# Altium footprint library Footprints.PcbLib: 96 footprints (part 1 of 6)
Each footprint in its own frame and in the unit in brackets; x right, y up, seen from the top. Pads: shape width x height; smd on the part's side, far side on the other; paste and mask are expansions set on the pad; w line width, h text height; cw(c..) or ccw(c..) is an arc to the next point about the centre after c.
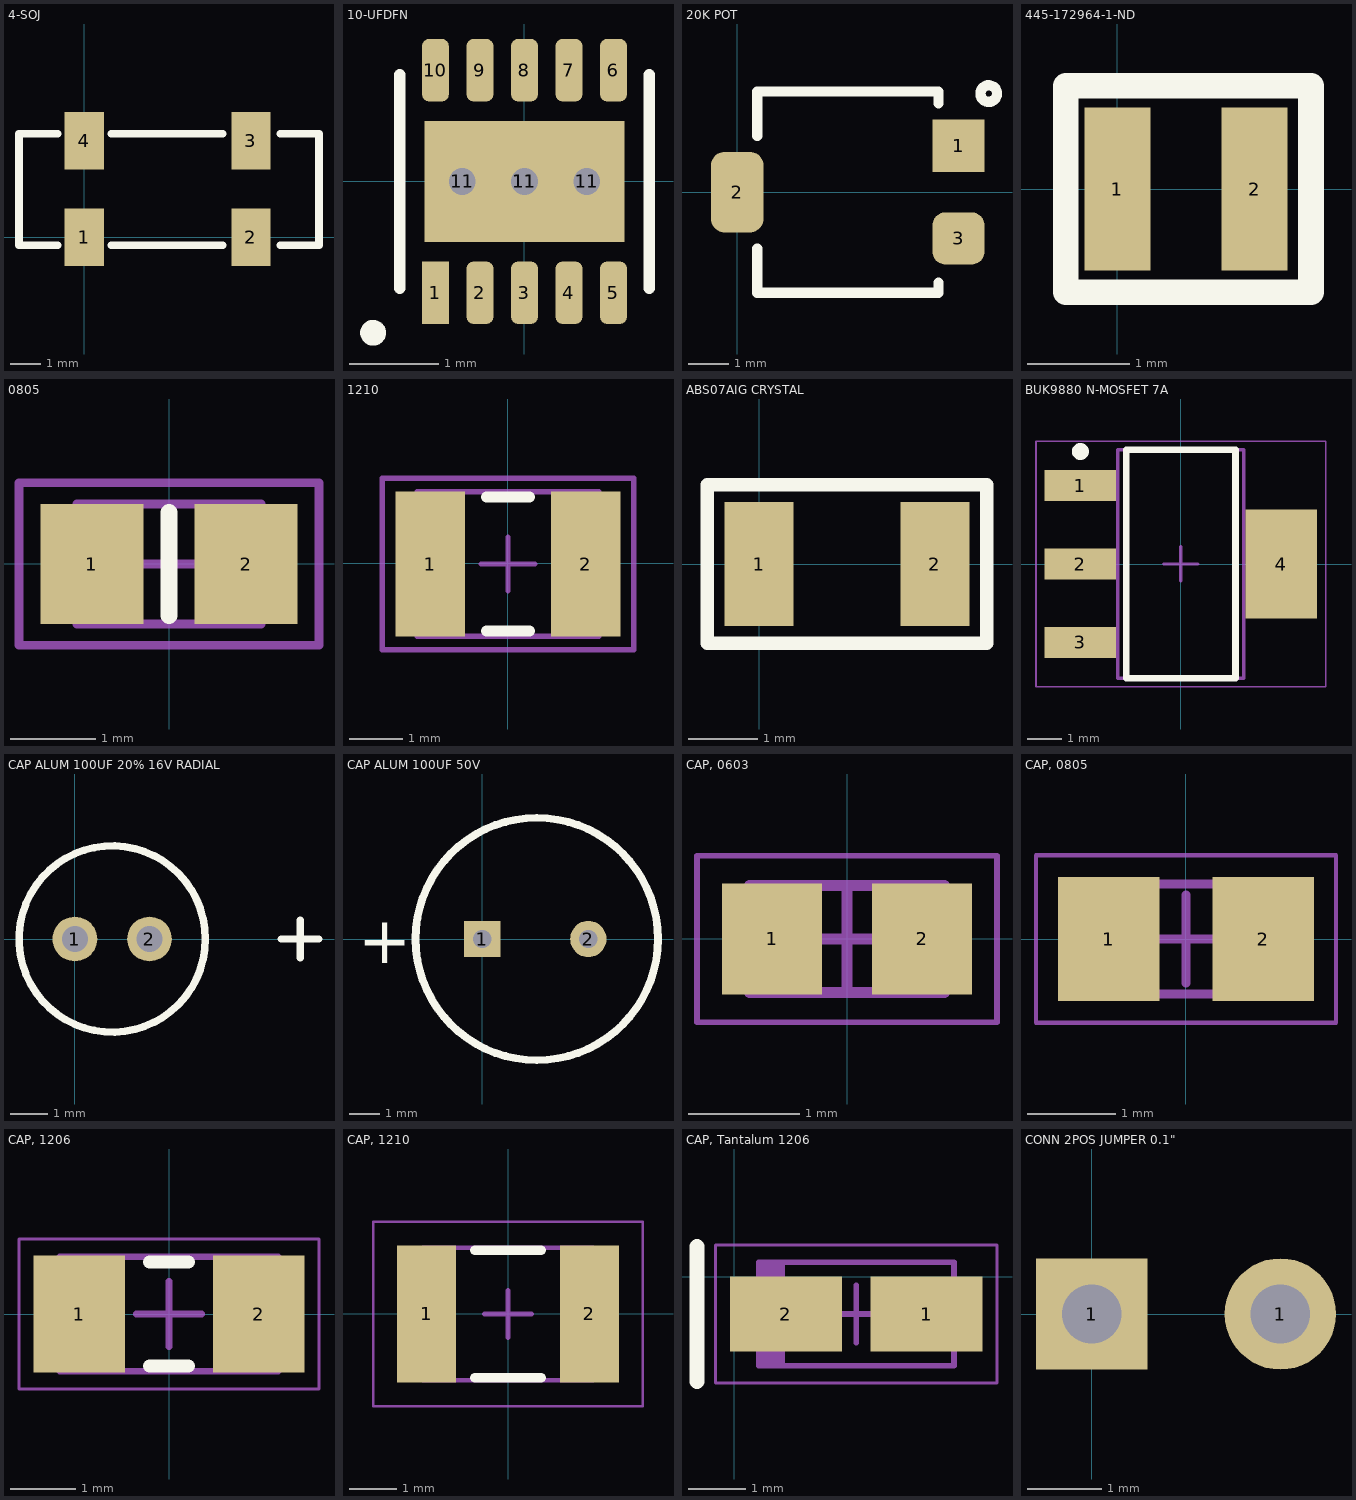
[diagram p0: the footprints below, top view; thin cyan lines are the x and y axes]

## 4-SOJ [mm]
pads (4):
  rect 1.3x1.9 smd: 1(0,0) 2(5.5,0) 3(5.5,3.2) 4(0,3.2)
Top Overlay:
  lines w0.254: -0.889,-0.254 -2.159,-0.254 -2.159,3.429 -0.889,3.429 ; 0.889,-0.254 4.572,-0.254 ; 0.889,3.429 4.572,3.429 ; 6.477,-0.254 7.747,-0.254 7.747,3.429 6.477,3.429

## 10-UFDFN [mm]
pads (14):
  rect 0.3x0.7 smd: 1(-1,-1.25)
  rrect50% 0.3x0.7 smd: 2(-0.5,-1.25) 3(0,-1.25) 4(0.5,-1.25) 5(1,-1.25) 6(1,1.25) 7(0.5,1.25) 8(0,1.25) 9(-0.5,1.25) 10(-1,1.25)
  round 0.6 hole 0.3: 11(-0.7,0) 11(0,0) 11(0.7,0)
  rect 2.25x1.36 smd paste-0.2: 11(0,0)
Top Overlay:
  circle w0.15: c-1.7,-1.7 r0.07
  lines w0.127: -1.4,-1.2 -1.4,1.2 ; 1.4,-1.2 1.4,1.2
3D body: height 0.6, standoff 0, extent -1.275,-1.275 1.275,1.275

## 20K POT [mm]
height 2.7
pads (3):
  rect 1.3x1.3 smd: 1(5.5,1.15)
  rrect50% 1.3x2 smd: 2(0,0)
  rrect50% 1.3x1.3 smd: 3(5.5,-1.15)
Top Overlay:
  circle w0.254: c6.25,2.45 r0.206
  lines w0.254: 0.5,-1.4 0.5,-2.5 5,-2.5 5,-2.25 ; 0.5,1.4 0.5,2.5 5,2.5 5,2.2

## 445-172964-1-ND [mm]
pads (2):
  rect 0.65x1.6 smd: 1(0,0) 2(1.35,0)
Top Overlay:
  lines w0.254: -0.508,-1.016 -0.508,1.016 1.905,1.016 1.905,-1.016 -0.508,-1.016

## 0805 [mm]
pads (2):
  rect 1.2x1.4 smd: 1(-0.903,-0.001) 2(0.897,-0.001)
Top Overlay:
  lines w0.2: -0.003,-0.601 -0.003,0.599
Mechanical 13:
  lines w0.1: -1.078,-0.701 1.072,-0.701 1.072,0.699 -1.078,0.699 -1.078,-0.701
Mechanical 15:
  lines w0.1: -0.503,-0.001 0.497,-0.001 ; -0.003,-0.501 -0.003,0.499 ; -1.753,-0.951 1.747,-0.951 1.747,0.949 -1.753,0.949 -1.753,-0.951
3D body: height 0.7, standoff 0, extent -1.078,-0.701 1.072,0.699

## 1210 [mm]
pads (2):
  rect 1.3x2.7 smd: 1(-1.441,-0.01) 2(1.459,-0.01)
Top Overlay:
  lines w0.2: -0.391,-1.26 0.409,-1.26 ; -0.391,1.24 0.409,1.24
Mechanical 13:
  lines w0.1: -1.691,-1.36 -1.691,1.34 1.709,1.34 1.709,-1.36 -1.691,-1.36
Mechanical 15:
  lines w0.1: -0.491,-0.01 0.509,-0.01 ; 0.009,-0.51 0.009,0.49 ; -2.341,-1.61 -2.341,1.59 2.359,1.59 2.359,-1.61 -2.341,-1.61
3D body: height 1.5, standoff 0, extent -1.691,-1.36 1.709,1.34

## ABS07AIG CRYSTAL [mm]
pads (2):
  rect 1x1.8 smd: 1(0,0) 2(2.55,0)
Top Overlay:
  lines w0.2: -0.75,-1.15 3.3,-1.15 3.3,1.15 -0.75,1.15 -0.75,-1.15
3D body "ABS07.STEP": height 0.89, standoff 0, extent -0.325,-0.749 2.875,0.749

## BUK9880 N-MOSFET 7A [mm] "SOT223, 4-Leads, Body 6.50x7.00mm (avg), Pitch 2.30mm, IPC Medium Density"
height 1.8
pads (4):
  rect 2.1x0.9 smd: 1(-2.95,2.3) 2(-2.95,0) 3(-2.95,-2.3)
  rect 2.1x3.2 smd: 4(2.95,0)
Top Overlay:
  circle w0.25: c-2.95,3.3 r0.125
  lines w0.2: -1.6,-3.35 1.6,-3.35 1.6,3.35 -1.6,3.35 -1.6,-3.35
Mechanical 13:
  lines w0.1: -1.85,-3.35 1.85,-3.35 1.85,3.35 -1.85,3.35 -1.85,-3.35
Mechanical 15:
  lines w0.05: -4.25,-3.6 4.25,-3.6 4.25,3.6 -4.25,3.6 -4.25,-3.6
  lines w0.1: -0.5,0 0.5,0 ; 0,-0.5 0,0.5
3D body "SOT230P700X180-4N.step": height 1.8, standoff 0, extent -3.5,-3.35 3.5,3.35

## CAP ALUM 100UF 20% 16V RADIAL [mm] "100µF 16V Aluminum Capacitors Radial, Can 2000 Hrs @ 105°C"
height 12.5
pads (2):
  round 1.2 hole 0.7: 1(0,0) 2(2,0)
Top Overlay:
  circle w0.2: c1,0 r2.5
  lines w0.2: 5.532,0 6.548,0 ; 6.04,-0.508 6.04,0.508

## CAP ALUM 100UF 50V [mm] "CAP ALUM 100UF 20% 50V RADIAL"
height 11
pads (2):
  rect 1.2x1.2 hole 0.6: 1(0,0)
  round 1.2 hole 0.6: 2(3.5,0)
Top Overlay:
  circle w0.254: c1.8,0 r4
  text "+" at -4.1,-0.8 h1.52
3D body "ESY107M050AG3AA.step": height 12.5, standoff -5, extent -2.45,-4.25 6.05,4.25

## CAP, 0603 [mm] "Chip Capacitor, 2-Leads, Body 1.60x0.81mm, IPC Medium Density"
height 0.9
pads (2):
  rect 0.9x1 smd mask+0.076: 1(-0.675,0) 2(0.675,0)
Mechanical 13:
  lines w0.1: -0.875,-0.48 0.875,-0.48 0.875,0.48 -0.875,0.48 -0.875,-0.48
Mechanical 15:
  lines w0.05: -1.35,-0.75 1.35,-0.75 1.35,0.75 -1.35,0.75 -1.35,-0.75
  lines w0.1: -0.48,0 0.48,0 ; 0,-0.48 0,0.48
3D body "CAPC1608X09N.step": height 0.9, standoff 0, extent -0.875,-0.48 0.875,0.48

## CAP, 0805 [mm] "Chip Capacitor, 2-Leads, Body 2.00x1.25mm, IPC Medium Density"
height 1.25
pads (2):
  rect 1.15x1.4 smd: 1(-0.875,0) 2(0.875,0)
Mechanical 13:
  lines w0.1: -1,-0.625 -1,0.625 1,0.625 1,-0.625 -1,-0.625
Mechanical 15:
  lines w0.05: -1.7,-0.95 -1.7,0.95 1.7,0.95 1.7,-0.95 -1.7,-0.95
  lines w0.1: -0.5,0 0.5,0 ; 0,-0.5 0,0.5
3D body "CAP, 0805.step": height 1.25, standoff 0, extent -1,-0.625 1,0.625

## CAP, 1206 [mm] "Chip Capacitor, 2-Leads, Body 3.20x1.60mm, IPC Medium Density"
height 1.8
pads (2):
  rect 1.4x1.8 smd: 1(-1.375,0) 2(1.375,0)
Top Overlay:
  lines w0.2: -0.3,-0.8 0.3,-0.8 ; -0.3,0.8 0.3,0.8
Mechanical 13:
  lines w0.1: -1.675,-0.875 -1.675,0.875 1.675,0.875 1.675,-0.875 -1.675,-0.875
Mechanical 15:
  lines w0.05: -2.3,-1.15 -2.3,1.15 2.3,1.15 2.3,-1.15 -2.3,-1.15
  lines w0.1: -0.5,0 0.5,0 ; 0,-0.5 0,0.5
3D body: height 1.8, standoff 0, extent -1.125,-0.875 1.125,0.875
3D body: height 1.8, standoff 0, extent -1.675,-0.875 -1.125,0.875
3D body: height 1.8, standoff 0, extent 1.125,-0.875 1.675,0.875

## CAP, 1210 [mm] "Chip Capacitor, 2-Leads, Body 3.20x2.50mm, IPC Low Density"
height 2.8
pads (2):
  rect 1.25x2.9 smd: 1(-1.725,0) 2(1.725,0)
Top Overlay:
  lines w0.2: -0.7,-1.35 0.7,-1.35 ; -0.7,1.35 0.7,1.35
Mechanical 13:
  lines w0.1: -1.8,-1.4 -1.8,1.4 1.8,1.4 1.8,-1.4 -1.8,-1.4
Mechanical 15:
  lines w0.05: -2.85,-1.95 -2.85,1.95 2.85,1.95 2.85,-1.95 -2.85,-1.95
  lines w0.1: -0.5,0 0.5,0 ; 0,-0.5 0,0.5
3D body "CAPC3225X28M.step": height 2.8, standoff 0, extent -1.8,-1.4 1.8,1.4

## CAP, Tantalum 1206 [mm] "22µF ±10% Molded Tantalum Capacitors 6.3V 1206 (3216 Metric) 3 Ohm"
height 1.1
pads (2):
  rect 1.95x1.3 smd: 1(3.35,-0.65) 2(0.9,-0.65)
Top Overlay:
  lines w0.254: -0.65,-1.825 -0.65,0.525
Mechanical 13:
  region: 0.882,0.25 0.425,0.25 0.425,-1.55 0.882,-1.55
  lines w0.1: 0.425,-1.55 3.825,-1.55 3.825,0.25 0.425,0.25 0.425,-1.55
Mechanical 15:
  lines w0.05: -0.325,-1.85 4.575,-1.85 4.575,0.55 -0.325,0.55 -0.325,-1.85
  lines w0.1: 1.625,-0.65 2.625,-0.65 ; 2.125,-1.15 2.125,-0.15
3D body: height 1.1, standoff 0, extent 0.425,-1.55 3.825,0.25

## CONN 2POS JUMPER 0.1" [mm]
pads (2):
  rect 1.5x1.5 hole 0.8: 1(0,0)
  round 1.5 hole 0.8: 1(2.54,0)
3D body "901310921.stp": height 9.25, standoff -2.9, extent -1.24,-1.27 3.84,1.27